# Altium integrated library ALTIUM-WL-SWTP.IntLib: 15 symbols
Pins are listed as number, name and electrical type; pins without a type are passive.

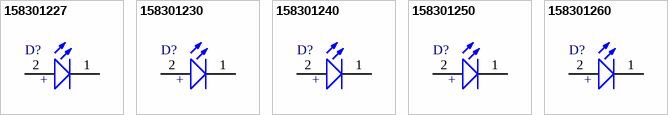
[diagram p0: symbols 158301227 to 158301260]

## 158301227
designator D?
WL-SWTP SMD White Top view PLCC, size 3014, Sunrise; Part Number: 158301227; Forward Voltage: 3 V; Viewing Angle: 120°; Luminous Flux: 7 lm; Color Rendering Index: 85; Published Date: Jan 2017; Publisher: Wurth Elektronik; ComponentLink1Description: Manufacturer; ComponentLink1URL: http://www.we-online.de; ComponentLink2Description: Datasheet; ComponentLink2URL: http://katalog.we-online.de/led/datasheet/158301227.pdf; Size: 3014; Emitting Color: Sunrise
footprint WL-SWTP_3014 (SMD White Top view PLCC, body 3x1.4)
pins: 1 K, 2 A
text: +

## 158301230
designator D?
WL-SWTP SMD White Top view PLCC, size 3014, Warm White; Part Number: 158301230; Forward Voltage: 3 V; Viewing Angle: 120°; Luminous Flux: 7 lm; Color Rendering Index: 85; Published Date: Jan 2017; Publisher: Wurth Elektronik; ComponentLink1Description: Manufacturer; ComponentLink1URL: http://www.we-online.de; ComponentLink2Description: Datasheet; ComponentLink2URL: http://katalog.we-online.de/led/datasheet/158301230.pdf; Size: 3014; Emitting Color: Warm White
footprint WL-SWTP_3014
pins: 1 K, 2 A
text: +

## 158301240
designator D?
WL-SWTP SMD White Top view PLCC, size 3014, Moonlight; Part Number: 158301240; Forward Voltage: 3 V; Viewing Angle: 120°; Luminous Flux: 7.5 lm; Color Rendering Index: 85; Published Date: Jan 2017; Publisher: Wurth Elektronik; ComponentLink1Description: Manufacturer; ComponentLink1URL: http://www.we-online.de; ComponentLink2Description: Datasheet; ComponentLink2URL: http://katalog.we-online.de/led/datasheet/158301240.pdf; Size: 3014; Emitting Color: Moonlight
footprint WL-SWTP_3014
pins: 1 K, 2 A
text: +

## 158301250
designator D?
WL-SWTP SMD White Top view PLCC, size 3014, Daylight; Part Number: 158301250; Forward Voltage: 3 V; Viewing Angle: 120°; Luminous Flux: 8 lm; Color Rendering Index: 85; Published Date: Jan 2017; Publisher: Wurth Elektronik; ComponentLink1Description: Manufacturer; ComponentLink1URL: http://www.we-online.de; ComponentLink2Description: Datasheet; ComponentLink2URL: http://katalog.we-online.de/led/datasheet/158301250.pdf; Size: 3014; Emitting Color: Daylight
footprint WL-SWTP_3014
pins: 1 K, 2 A
text: +

## 158301260
designator D?
WL-SWTP SMD White Top view PLCC, size 3014, Cool White; Part Number: 158301260; Forward Voltage: 3 V; Viewing Angle: 120°; Luminous Flux: 8 lm; Color Rendering Index: 90; Published Date: Jan 2017; Publisher: Wurth Elektronik; ComponentLink1Description: Manufacturer; ComponentLink1URL: http://www.we-online.de; ComponentLink2Description: Datasheet; ComponentLink2URL: http://katalog.we-online.de/led/datasheet/158301260.pdf; Size: 3014; Emitting Color: Cool White
footprint WL-SWTP_3014
pins: 1 K, 2 A
text: +


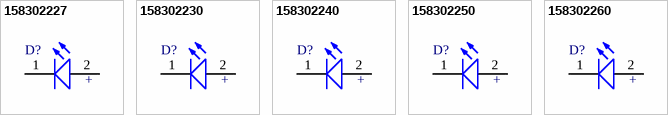
[diagram p1: symbols 158302227 to 158302260]

## 158302227
designator D?
WL-SWTP SMD White Top view PLCC, size 3022, Sunrise; Part Number: 158302227; Forward Voltage: 3.2 V; Viewing Angle: 120°; Luminous Flux: 20 lm; Color Rendering Index: 85; Published Date: Jan 2017; Publisher: Wurth Elektronik; ComponentLink1Description: Manufacturer; ComponentLink1URL: http://www.we-online.de; ComponentLink2Description: Datasheet; ComponentLink2URL: http://katalog.we-online.de/led/datasheet/158302227.pdf; Size: 3022; Emitting Color: Sunrise
footprint WL-SWTP_3022
pins: 1 K, 2 A
text: +

## 158302230
designator D?
WL-SWTP SMD White Top view PLCC, size 3022, Warm White; Part Number: 158302230; Forward Voltage: 3.2 V; Viewing Angle: 120°; Luminous Flux: 20 lm; Color Rendering Index: 85; Published Date: Jan 2017; Publisher: Wurth Elektronik; ComponentLink1Description: Manufacturer; ComponentLink1URL: http://www.we-online.de; ComponentLink2Description: Datasheet; ComponentLink2URL: http://katalog.we-online.de/led/datasheet/158302230.pdf; Size: 3022; Emitting Color: Warm White
footprint WL-SWTP_3022
pins: 1 K, 2 A
text: +

## 158302240
designator D?
WL-SWTP SMD White Top view PLCC, size 3022, Moonlight; Part Number: 158302240; Forward Voltage: 3.2 V; Viewing Angle: 120°; Luminous Flux: 22 lm; Color Rendering Index: 85; Published Date: Jan 2017; Publisher: Wurth Elektronik; ComponentLink1Description: Manufacturer; ComponentLink1URL: http://www.we-online.de; ComponentLink2Description: Datasheet; ComponentLink2URL: http://katalog.we-online.de/led/datasheet/158302240.pdf; Size: 3022; Emitting Color: Moonlight
footprint WL-SWTP_3022 (SMD White Top view PLCC, body 3x2.1)
pins: 1 K, 2 A
text: +

## 158302250
designator D?
WL-SWTP SMD White Top view PLCC, size 3022, Daylight; Part Number: 158302250; Forward Voltage: 3.2 V; Viewing Angle: 120°; Luminous Flux: 22 lm; Color Rendering Index: 85; Published Date: Jan 2017; Publisher: Wurth Elektronik; ComponentLink1Description: Manufacturer; ComponentLink1URL: http://www.we-online.de; ComponentLink2Description: Datasheet; ComponentLink2URL: http://katalog.we-online.de/led/datasheet/158302250.pdf; Size: 3022; Emitting Color: Daylight
footprint WL-SWTP_3022
pins: 1 K, 2 A
text: +

## 158302260
designator D?
WL-SWTP SMD White Top view PLCC, size 3022, Cool White; Part Number: 158302260; Forward Voltage: 3.2 V; Viewing Angle: 120°; Luminous Flux: 22 lm; Color Rendering Index: 90; Published Date: Jan 2017; Publisher: Wurth Elektronik; ComponentLink1Description: Manufacturer; ComponentLink1URL: http://www.we-online.de; ComponentLink2Description: Datasheet; ComponentLink2URL: http://katalog.we-online.de/led/datasheet/158302260.pdf; Size: 3022; Emitting Color: Cool White
footprint WL-SWTP_3022
pins: 1 K, 2 A
text: +


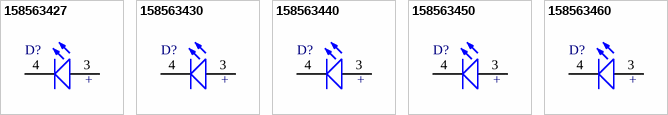
[diagram p2: symbols 158563427 to 158563460]

## 158563427
designator D?
WL-SWTP SMD White Top view PLCC, size 5630, Sunrise; Part Number: 158563427; Forward Voltage: 3 V; Viewing Angle: 120°; Luminous Flux: 34 lm; Color Rendering Index: 85; Published Date: Jan 2017; Publisher: Wurth Elektronik; ComponentLink1Description: Manufacturer; ComponentLink1URL: http://www.we-online.de; ComponentLink2Description: Datasheet; ComponentLink2URL: http://katalog.we-online.de/led/datasheet/158563427.pdf; Size: 5630; Emitting Color: Sunrise
footprint WL-SWTP_5630
pins: 3 A, 4 K
text: +

## 158563430
designator D?
WL-SWTP SMD White Top view PLCC, size 5630, Warm White; Part Number: 158563430; Forward Voltage: 3 V; Viewing Angle: 120°; Luminous Flux: 34 lm; Color Rendering Index: 85; Published Date: Jan 2017; Publisher: Wurth Elektronik; ComponentLink1Description: Manufacturer; ComponentLink1URL: http://www.we-online.de; ComponentLink2Description: Datasheet; ComponentLink2URL: http://katalog.we-online.de/led/datasheet/158563430.pdf; Size: 5630; Emitting Color: Warm White
footprint WL-SWTP_5630 (SMD White Top view PLCC, body 5.4x3.0)
pins: 3 A, 4 K
text: +

## 158563440
designator D?
WL-SWTP SMD White Top view PLCC, size 5630, Moonlight; Part Number: 158563440; Forward Voltage: 3 V; Viewing Angle: 120°; Luminous Flux: 36 lm; Color Rendering Index: 85; Published Date: Jan 2017; Publisher: Wurth Elektronik; ComponentLink1Description: Manufacturer; ComponentLink1URL: http://www.we-online.de; ComponentLink2Description: Datasheet; ComponentLink2URL: http://katalog.we-online.de/led/datasheet/158563440.pdf; Size: 5630; Emitting Color: Moonlight
footprint WL-SWTP_5630
pins: 3 A, 4 K
text: +

## 158563450
designator D?
WL-SWTP SMD White Top view PLCC, size 5630, Daylight; Part Number: 158563450; Forward Voltage: 3 V; Viewing Angle: 120°; Luminous Flux: 39 lm; Color Rendering Index: 85; Published Date: Jan 2017; Publisher: Wurth Elektronik; ComponentLink1Description: Manufacturer; ComponentLink1URL: http://www.we-online.de; ComponentLink2Description: Datasheet; ComponentLink2URL: http://katalog.we-online.de/led/datasheet/158563450.pdf; Size: 5630; Emitting Color: Daylight
footprint WL-SWTP_5630
pins: 3 A, 4 K
text: +

## 158563460
designator D?
WL-SWTP SMD White Top view PLCC, size 5630, Cool White; Part Number: 158563460; Forward Voltage: 3 V; Viewing Angle: 120°; Luminous Flux: 39 lm; Color Rendering Index: 90; Published Date: Jan 2017; Publisher: Wurth Elektronik; ComponentLink1Description: Manufacturer; ComponentLink1URL: http://www.we-online.de; ComponentLink2Description: Datasheet; ComponentLink2URL: http://katalog.we-online.de/led/datasheet/158563460.pdf; Size: 5630; Emitting Color: Cool White
footprint WL-SWTP_5630
pins: 3 A, 4 K
text: +